# Altium footprint library LED.PcbLib: 20 footprints (part 2 of 2)
Each footprint in its own frame and in the unit in brackets; x right, y up, seen from the top. Pads: shape width x height; smd on the part's side, far side on the other; paste and mask are expansions set on the pad; w line width, h text height; cw(c..) or ccw(c..) is an arc to the next point about the centre after c.
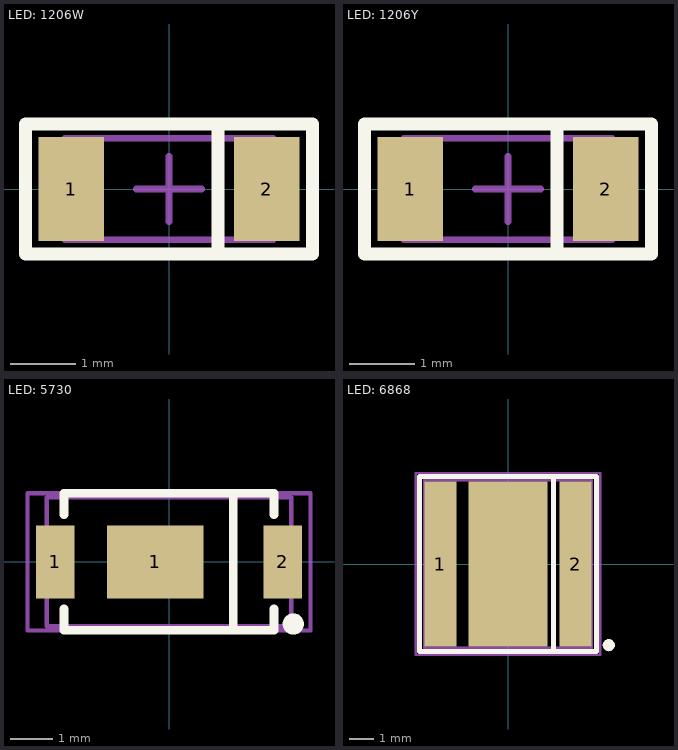
[diagram p1: the footprints below, top view; thin cyan lines are the x and y axes]

## LED: 1206W [mm]
height 0.6
pads (2):
  rect 1x1.6 smd: 1(-1.5,0) 2(1.5,0)
Top Overlay:
  lines w0.2: 0.75,-1 0.75,1 ; -2.2,-1 -2.2,1 2.2,1 2.2,-1 -2.2,-1
Mechanical 1:
  lines w0.1: -1.6,-0.775 -1.6,0.775 1.6,0.775 1.6,-0.775 -1.6,-0.775
Mechanical 15:
  lines w0.1: -0.5,0 0.5,0 ; 0,-0.5 0,0.5 ; -2.2,-1 2.2,-1 2.2,1 -2.2,1 -2.2,-1
3D body "User Library-FYLS-1206.step": height 1.1, standoff 0, extent -1.6,-0.8 1.6,0.8

## LED: 1206Y [mm]
height 0.6
pads (2):
  rect 1x1.6 smd: 1(-1.5,0) 2(1.5,0)
Top Overlay:
  lines w0.2: 0.75,-1 0.75,1 ; -2.2,-1 2.2,-1 2.2,1 -2.2,1 -2.2,-1
Mechanical 1:
  lines w0.1: -1.6,-0.775 1.6,-0.775 1.6,0.775 -1.6,0.775 -1.6,-0.775
Mechanical 15:
  lines w0.1: -0.5,0 0.5,0 ; 0,-0.5 0,0.5 ; -2.2,-1 -2.2,1 2.2,1 2.2,-1 -2.2,-1
3D body "User Library-FYLS-1206.step": height 1.1, standoff 0, extent -1.6,-0.8 1.6,0.8

## LED: 5730 [mm]
pads (4):
  rect 0.9x1.7 smd: 1(-2.65,0) 2(2.65,0)
  rect 2.25x1.7 smd: 1(-0.32,0)
  round 0.5 on Top Overlay: ""(2.9,-1.45)
Top Overlay:
  lines w0.2: -2.45,-1.1 -2.45,-1.6 0,-1.6 2.45,-1.6 2.45,-1.1 ; -2.45,1.1 -2.45,1.6 0,1.6 2.45,1.6 2.45,1.1 ; 1.5,-1.6 1.5,1.6
Mechanical 1:
  lines w0.1: -2.85,-1.5 -2.85,1.5 2.85,1.5 2.85,-1.5 -2.85,-1.5
Mechanical 15:
  lines w0.1: -0.3,0 0.3,0 ; 0,-0.3 0,0.3 ; -3.3,-1.6 3.3,-1.6 3.3,1.6 -3.3,1.6 -3.3,-1.6
3D body "LED 5730.stp": height 0.84, standoff 0.04, extent -2.85,-1.5 2.85,1.5

## LED: 6868 [mm]
pads (4):
  rect 1.3x6.7 smd: 1(-2.75,0) 2(2.75,0)
  rect 3.2x6.7 smd: ""(0,0)
  round 0.5 on Top Overlay: ""(4.1,-3.3)
Top Overlay:
  lines w0.2: 1.85,-3.55 1.85,3.5 ; -3.6,-3.55 3.6,-3.55 3.6,3.55 -3.6,3.55 -3.6,-3.55
Mechanical 1:
  lines w0.1: 1.85,-3.4 1.85,3.4 ; -3.4,-3.4 -3.4,3.4 3.4,3.4 3.4,-3.4 -3.4,-3.4
Mechanical 15:
  lines w0.1: -0.3,0 0.3,0 ; 0,-0.3 0,0.3 ; -3.75,-3.7 -3.75,3.7 3.75,3.7 3.75,-3.7 -3.75,-3.7
3D body "6666.STEP": height 1.55, standoff 0, extent -3.4,-3.4 3.4,3.4